# Altium footprint library Package_CSP.PcbLib: 127 footprints (part 2 of 8)
Each footprint in its own frame and in the unit in brackets; x right, y up, seen from the top. Pads: shape width x height; smd on the part's side, far side on the other; paste and mask are expansions set on the pad; w line width, h text height; cw(c..) or ccw(c..) is an arc to the next point about the centre after c.
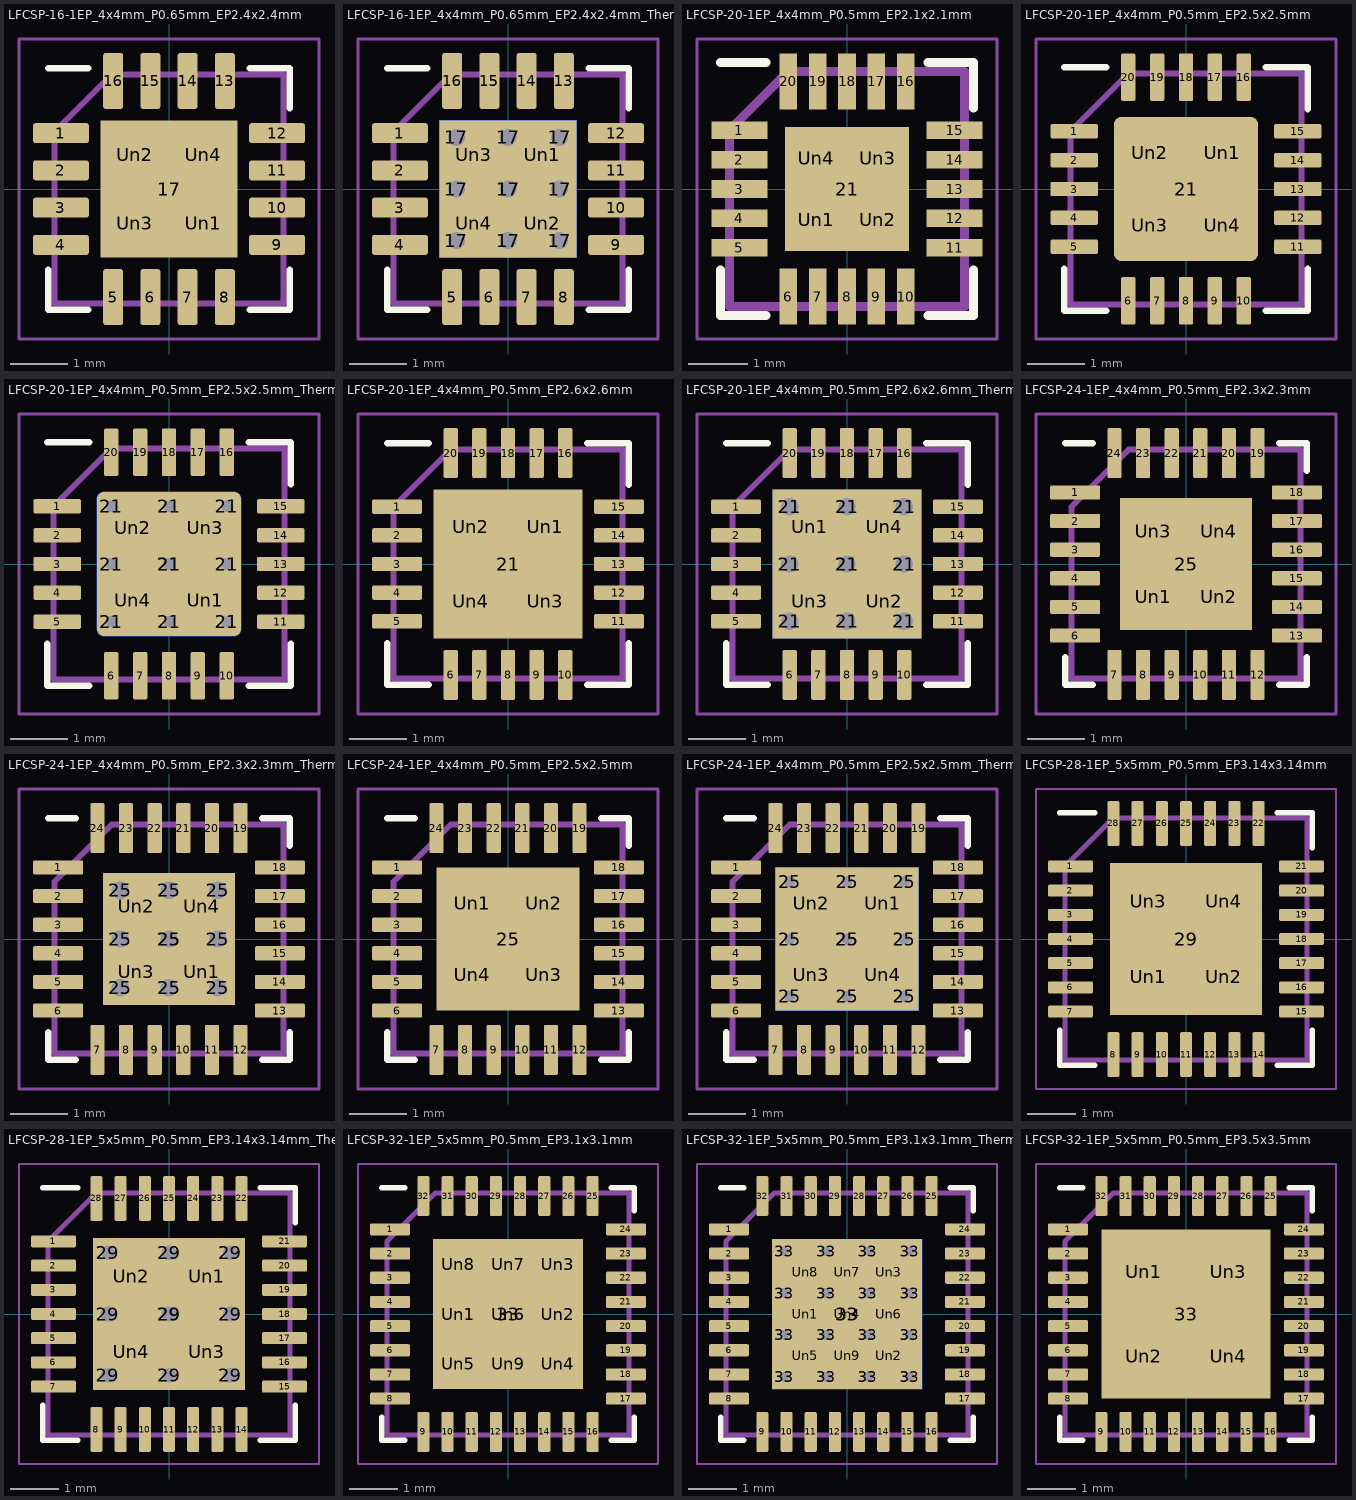
[diagram p1: the footprints below, top view; thin cyan lines are the x and y axes]

## LFCSP-16-1EP_4x4mm_P0.65mm_EP2.4x2.4mm [mm]
pads (21):
  rrect25% 0.975x0.35 smd: 1(-1.887,0.975) 2(-1.887,0.325) 3(-1.887,-0.325) 4(-1.887,-0.975) 9(1.887,-0.975) 10(1.887,-0.325) 11(1.887,0.325) 12(1.887,0.975)
  rrect25% 0.35x0.975 smd: 5(-0.975,-1.887) 6(-0.325,-1.887) 7(0.325,-1.887) 8(0.975,-1.887) 13(0.975,1.887) 14(0.325,1.887) 15(-0.325,1.887) 16(-0.975,1.887)
  rect 2.4x2.4 smd: 17(0,0)
  rrect25% 0.97x0.97 on Top Paste: Un1(0.6,-0.6) Un2(-0.6,0.6) Un3(-0.6,-0.6) Un4(0.6,0.6)
F.SilkS:
  lines w0.12: -2.11,-1.41 -2.11,-2.11 -1.41,-2.11 ; -2.11,2.11 -1.41,2.11 ; 1.41,-2.11 2.11,-2.11 2.11,-1.41 ; 1.41,2.11 2.11,2.11 2.11,1.41
F.CrtYd:
  lines w0.05: -2.62,-2.62 -2.62,2.62 2.62,2.62 2.62,-2.62 -2.62,-2.62
F.Fab:
  lines w0.1: -2,-2 -2,1 -1,2 2,2 2,-2 -2,-2
  text "'.Designator'" at -4.047,-0.84 h1

## LFCSP-16-1EP_4x4mm_P0.65mm_EP2.4x2.4mm_ThermalVias [mm]
pads (31):
  rrect25% 0.975x0.35 smd: 1(-1.887,0.975) 2(-1.887,0.325) 3(-1.887,-0.325) 4(-1.887,-0.975) 9(1.887,-0.975) 10(1.887,-0.325) 11(1.887,0.325) 12(1.887,0.975)
  rrect25% 0.35x0.975 smd: 5(-0.975,-1.887) 6(-0.325,-1.887) 7(0.325,-1.887) 8(0.975,-1.887) 13(0.975,1.887) 14(0.325,1.887) 15(-0.325,1.887) 16(-0.975,1.887)
  round 0.6 hole 0.3: 17(-0.9,-0.9) 17(-0.9,0) 17(-0.9,0.9) 17(0,-0.9) 17(0,0) 17(0,0.9) 17(0.9,-0.9) 17(0.9,0) 17(0.9,0.9)
  rect 2.4x2.4 smd: 17(0,0)
  rect 2.4x2.4 smd far side: 17(0,0)
  rrect24% 1.04x1.04 on Top Paste: Un1(0.6,0.6) Un2(0.6,-0.6) Un3(-0.6,0.6) Un4(-0.6,-0.6)
F.SilkS:
  lines w0.12: -2.11,-1.41 -2.11,-2.11 -1.41,-2.11 ; -2.11,2.11 -1.41,2.11 ; 1.41,-2.11 2.11,-2.11 2.11,-1.41 ; 1.41,2.11 2.11,2.11 2.11,1.41
F.CrtYd:
  lines w0.05: -2.62,-2.62 2.62,-2.62 2.62,2.62 -2.62,2.62 -2.62,-2.62
F.Fab:
  lines w0.1: -2,-2 -2,1 -1,2 2,2 2,-2 -2,-2
  text "'.Designator'" at -4.047,-0.84 h1

## LFCSP-20-1EP_4x4mm_P0.5mm_EP2.1x2.1mm [mm]
pads (25):
  rect 0.95x0.3 smd: 1(-1.83,1) 2(-1.83,0.5) 3(-1.83,0) 4(-1.83,-0.5) 5(-1.83,-1) 11(1.83,-1) 12(1.83,-0.5) 13(1.83,0) 14(1.83,0.5) 15(1.83,1)
  rect 0.3x0.95 smd: 6(-1,-1.83) 7(-0.5,-1.83) 8(0,-1.83) 9(0.5,-1.83) 10(1,-1.83) 16(1,1.83) 17(0.5,1.83) 18(0,1.83) 19(-0.5,1.83) 20(-1,1.83)
  rect 2.1x2.1 smd: 21(0,0)
  rect 0.86x0.86 on Top Paste: Un1(-0.525,-0.525) Un2(0.525,-0.525) Un3(0.525,0.525) Un4(-0.525,0.525)
F.SilkS:
  lines w0.15: -2.15,-1.375 -2.15,-2.15 -1.375,-2.15 ; -2.15,2.15 -1.375,2.15 ; 1.375,-2.15 2.15,-2.15 2.15,-1.375 ; 1.375,2.15 2.15,2.15 2.15,1.375
F.CrtYd:
  lines w0.05: -2.55,-2.55 -2.55,2.55 2.55,2.55 2.55,-2.55 -2.55,-2.55
F.Fab:
  lines w0.15: -2,-2 -2,1 -1,2 2,2 2,-2 -2,-2
  text "'.Designator'" at -4.047,-0.84 h1

## LFCSP-20-1EP_4x4mm_P0.5mm_EP2.5x2.5mm [mm]
pads (25):
  rrect25% 0.825x0.25 smd: 1(-1.937,1) 2(-1.937,0.5) 3(-1.937,0) 4(-1.937,-0.5) 5(-1.937,-1) 11(1.937,-1) 12(1.937,-0.5) 13(1.937,0) 14(1.937,0.5) 15(1.937,1)
  rrect25% 0.25x0.825 smd: 6(-1,-1.937) 7(-0.5,-1.937) 8(0,-1.937) 9(0.5,-1.937) 10(1,-1.937) 16(1,1.937) 17(0.5,1.937) 18(0,1.937) 19(-0.5,1.937) 20(-1,1.937)
  rrect10% 2.5x2.5 smd: 21(0,0)
  rrect25% 1.01x1.01 on Top Paste: Un1(0.625,0.625) Un2(-0.625,0.625) Un3(-0.625,-0.625) Un4(0.625,-0.625)
F.SilkS:
  lines w0.12: -2.11,-1.385 -2.11,-2.11 -1.385,-2.11 ; -2.11,2.11 -1.385,2.11 ; 1.385,-2.11 2.11,-2.11 2.11,-1.385 ; 1.385,2.11 2.11,2.11 2.11,1.385
F.CrtYd:
  lines w0.05: -2.6,-2.6 -2.6,2.6 2.6,2.6 2.6,-2.6 -2.6,-2.6
F.Fab:
  lines w0.1: -2,-2 -2,1 -1,2 2,2 2,-2 -2,-2
  text "'.Designator'" at -4.047,-0.84 h1

## LFCSP-20-1EP_4x4mm_P0.5mm_EP2.5x2.5mm_ThermalVias [mm]
pads (35):
  rrect25% 0.825x0.25 smd: 1(-1.937,1) 2(-1.937,0.5) 3(-1.937,0) 4(-1.937,-0.5) 5(-1.937,-1) 11(1.937,-1) 12(1.937,-0.5) 13(1.937,0) 14(1.937,0.5) 15(1.937,1)
  rrect25% 0.25x0.825 smd: 6(-1,-1.937) 7(-0.5,-1.937) 8(0,-1.937) 9(0.5,-1.937) 10(1,-1.937) 16(1,1.937) 17(0.5,1.937) 18(0,1.937) 19(-0.5,1.937) 20(-1,1.937)
  round 0.5 hole 0.2: 21(-1,-1) 21(-1,0) 21(-1,1) 21(0,-1) 21(0,0) 21(0,1) 21(1,-1) 21(1,0) 21(1,1)
  rrect10% 2.5x2.5 smd: 21(0,0)
  rrect10% 2.5x2.5 smd far side: 21(0,0)
  rrect23% 1.08x1.08 on Top Paste: Un1(0.625,-0.625) Un2(-0.625,0.625) Un3(0.625,0.625) Un4(-0.625,-0.625)
F.SilkS:
  lines w0.12: -2.11,-1.385 -2.11,-2.11 -1.385,-2.11 ; -2.11,2.11 -1.385,2.11 ; 1.385,-2.11 2.11,-2.11 2.11,-1.385 ; 1.385,2.11 2.11,2.11 2.11,1.385
F.CrtYd:
  lines w0.05: -2.6,-2.6 2.6,-2.6 2.6,2.6 -2.6,2.6 -2.6,-2.6
F.Fab:
  lines w0.1: -2,-2 -2,1 -1,2 2,2 2,-2 -2,-2
  text "'.Designator'" at -4.047,-0.84 h1

## LFCSP-20-1EP_4x4mm_P0.5mm_EP2.6x2.6mm [mm]
pads (25):
  rrect25% 0.875x0.25 smd: 1(-1.937,1) 2(-1.937,0.5) 3(-1.937,0) 4(-1.937,-0.5) 5(-1.937,-1) 11(1.937,-1) 12(1.937,-0.5) 13(1.937,0) 14(1.937,0.5) 15(1.937,1)
  rrect25% 0.25x0.875 smd: 6(-1,-1.937) 7(-0.5,-1.937) 8(0,-1.937) 9(0.5,-1.937) 10(1,-1.937) 16(1,1.937) 17(0.5,1.937) 18(0,1.937) 19(-0.5,1.937) 20(-1,1.937)
  rect 2.6x2.6 smd: 21(0,0)
  rrect24% 1.05x1.05 on Top Paste: Un1(0.65,0.65) Un2(-0.65,0.65) Un3(0.65,-0.65) Un4(-0.65,-0.65)
F.SilkS:
  lines w0.12: -2.11,-1.385 -2.11,-2.11 -1.385,-2.11 ; -2.11,2.11 -1.385,2.11 ; 1.385,-2.11 2.11,-2.11 2.11,-1.385 ; 1.385,2.11 2.11,2.11 2.11,1.385
F.CrtYd:
  lines w0.05: -2.62,-2.62 2.62,-2.62 2.62,2.62 -2.62,2.62 -2.62,-2.62
F.Fab:
  lines w0.1: -2,-2 -2,1 -1,2 2,2 2,-2 -2,-2
  text "'.Designator'" at -4.047,-0.84 h1

## LFCSP-20-1EP_4x4mm_P0.5mm_EP2.6x2.6mm_ThermalVias [mm]
pads (35):
  rrect25% 0.875x0.25 smd: 1(-1.937,1) 2(-1.937,0.5) 3(-1.937,0) 4(-1.937,-0.5) 5(-1.937,-1) 11(1.937,-1) 12(1.937,-0.5) 13(1.937,0) 14(1.937,0.5) 15(1.937,1)
  rrect25% 0.25x0.875 smd: 6(-1,-1.937) 7(-0.5,-1.937) 8(0,-1.937) 9(0.5,-1.937) 10(1,-1.937) 16(1,1.937) 17(0.5,1.937) 18(0,1.937) 19(-0.5,1.937) 20(-1,1.937)
  round 0.6 hole 0.3: 21(-1,-1) 21(-1,0) 21(-1,1) 21(0,-1) 21(0,0) 21(0,1) 21(1,-1) 21(1,0) 21(1,1)
  rect 2.6x2.6 smd far side: 21(0,0)
  rect 2.6x2.6 smd: 21(0,0)
  rrect23% 1.09x1.09 on Top Paste: Un1(-0.65,0.65) Un2(0.65,-0.65) Un3(-0.65,-0.65) Un4(0.65,0.65)
F.SilkS:
  lines w0.12: -2.11,-1.385 -2.11,-2.11 -1.385,-2.11 ; -2.11,2.11 -1.385,2.11 ; 1.385,-2.11 2.11,-2.11 2.11,-1.385 ; 1.385,2.11 2.11,2.11 2.11,1.385
F.CrtYd:
  lines w0.05: -2.62,-2.62 2.62,-2.62 2.62,2.62 -2.62,2.62 -2.62,-2.62
F.Fab:
  lines w0.1: -2,-2 2,-2 2,2 -1,2 -2,1 -2,-2
  text "'.Designator'" at -4.047,-0.84 h1

## LFCSP-24-1EP_4x4mm_P0.5mm_EP2.3x2.3mm [mm]
pads (29):
  rrect25% 0.875x0.25 smd: 1(-1.937,1.25) 2(-1.937,0.75) 3(-1.937,0.25) 4(-1.937,-0.25) 5(-1.937,-0.75) 6(-1.937,-1.25) 13(1.937,-1.25) 14(1.937,-0.75) 15(1.937,-0.25) 16(1.937,0.25) 17(1.937,0.75) 18(1.937,1.25)
  rrect25% 0.25x0.875 smd: 7(-1.25,-1.937) 8(-0.75,-1.937) 9(-0.25,-1.937) 10(0.25,-1.937) 11(0.75,-1.937) 12(1.25,-1.937) 19(1.25,1.937) 20(0.75,1.937) 21(0.25,1.937) 22(-0.25,1.937) 23(-0.75,1.937) 24(-1.25,1.937)
  rect 2.3x2.3 smd: 25(0,0)
  rrect25% 0.93x0.93 on Top Paste: Un1(-0.575,-0.575) Un2(0.575,-0.575) Un3(-0.575,0.575) Un4(0.575,0.575)
F.SilkS:
  lines w0.12: -2.11,-1.635 -2.11,-2.11 -1.635,-2.11 ; -2.11,2.11 -1.635,2.11 ; 1.635,-2.11 2.11,-2.11 2.11,-1.635 ; 1.635,2.11 2.11,2.11 2.11,1.635
F.CrtYd:
  lines w0.05: -2.62,-2.62 2.62,-2.62 2.62,2.62 -2.62,2.62 -2.62,-2.62
F.Fab:
  lines w0.1: -2,-2 -2,1 -1,2 2,2 2,-2 -2,-2
  text "'.Designator'" at -4.047,-0.84 h1

## LFCSP-24-1EP_4x4mm_P0.5mm_EP2.3x2.3mm_ThermalVias [mm]
pads (39):
  rrect25% 0.875x0.25 smd: 1(-1.937,1.25) 2(-1.937,0.75) 3(-1.937,0.25) 4(-1.937,-0.25) 5(-1.937,-0.75) 6(-1.937,-1.25) 13(1.937,-1.25) 14(1.937,-0.75) 15(1.937,-0.25) 16(1.937,0.25) 17(1.937,0.75) 18(1.937,1.25)
  rrect25% 0.25x0.875 smd: 7(-1.25,-1.937) 8(-0.75,-1.937) 9(-0.25,-1.937) 10(0.25,-1.937) 11(0.75,-1.937) 12(1.25,-1.937) 19(1.25,1.937) 20(0.75,1.937) 21(0.25,1.937) 22(-0.25,1.937) 23(-0.75,1.937) 24(-1.25,1.937)
  round 0.6 hole 0.3: 25(-0.85,-0.85) 25(-0.85,0) 25(-0.85,0.85) 25(0,-0.85) 25(0,0) 25(0,0.85) 25(0.85,-0.85) 25(0.85,0) 25(0.85,0.85)
  rect 2.3x2.3 smd far side: 25(0,0)
  rect 2.3x2.3 smd: 25(0,0)
  rrect25% 0.96x0.96 on Top Paste: Un1(0.575,-0.575) Un2(-0.575,0.575) Un3(-0.575,-0.575) Un4(0.575,0.575)
F.SilkS:
  lines w0.12: -2.11,-1.635 -2.11,-2.11 -1.635,-2.11 ; -2.11,2.11 -1.635,2.11 ; 1.635,-2.11 2.11,-2.11 2.11,-1.635 ; 1.635,2.11 2.11,2.11 2.11,1.635
F.CrtYd:
  lines w0.05: -2.62,-2.62 2.62,-2.62 2.62,2.62 -2.62,2.62 -2.62,-2.62
F.Fab:
  lines w0.1: -2,-2 -2,1 -1,2 2,2 2,-2 -2,-2
  text "'.Designator'" at -4.047,-0.84 h1

## LFCSP-24-1EP_4x4mm_P0.5mm_EP2.5x2.5mm [mm]
pads (29):
  rrect25% 0.875x0.25 smd: 1(-1.937,1.25) 2(-1.937,0.75) 3(-1.937,0.25) 4(-1.937,-0.25) 5(-1.937,-0.75) 6(-1.937,-1.25) 13(1.937,-1.25) 14(1.937,-0.75) 15(1.937,-0.25) 16(1.937,0.25) 17(1.937,0.75) 18(1.937,1.25)
  rrect25% 0.25x0.875 smd: 7(-1.25,-1.937) 8(-0.75,-1.937) 9(-0.25,-1.937) 10(0.25,-1.937) 11(0.75,-1.937) 12(1.25,-1.937) 19(1.25,1.937) 20(0.75,1.937) 21(0.25,1.937) 22(-0.25,1.937) 23(-0.75,1.937) 24(-1.25,1.937)
  rect 2.5x2.5 smd: 25(0,0)
  rrect25% 1.01x1.01 on Top Paste: Un1(-0.625,0.625) Un2(0.625,0.625) Un3(0.625,-0.625) Un4(-0.625,-0.625)
F.SilkS:
  lines w0.12: -2.11,-1.635 -2.11,-2.11 -1.635,-2.11 ; -2.11,2.11 -1.635,2.11 ; 1.635,-2.11 2.11,-2.11 2.11,-1.635 ; 1.635,2.11 2.11,2.11 2.11,1.635
F.CrtYd:
  lines w0.05: -2.62,-2.62 -2.62,2.62 2.62,2.62 2.62,-2.62 -2.62,-2.62
F.Fab:
  lines w0.1: -2,-2 2,-2 2,2 -1,2 -2,1 -2,-2
  text "'.Designator'" at -4.047,-0.84 h1

## LFCSP-24-1EP_4x4mm_P0.5mm_EP2.5x2.5mm_ThermalVias [mm]
pads (39):
  rrect25% 0.875x0.25 smd: 1(-1.937,1.25) 2(-1.937,0.75) 3(-1.937,0.25) 4(-1.937,-0.25) 5(-1.937,-0.75) 6(-1.937,-1.25) 13(1.937,-1.25) 14(1.937,-0.75) 15(1.937,-0.25) 16(1.937,0.25) 17(1.937,0.75) 18(1.937,1.25)
  rrect25% 0.25x0.875 smd: 7(-1.25,-1.937) 8(-0.75,-1.937) 9(-0.25,-1.937) 10(0.25,-1.937) 11(0.75,-1.937) 12(1.25,-1.937) 19(1.25,1.937) 20(0.75,1.937) 21(0.25,1.937) 22(-0.25,1.937) 23(-0.75,1.937) 24(-1.25,1.937)
  round 0.5 hole 0.2: 25(-1,-1) 25(-1,0) 25(-1,1) 25(0,-1) 25(0,0) 25(0,1) 25(1,-1) 25(1,0) 25(1,1)
  rect 2.5x2.5 smd far side: 25(0,0)
  rect 2.5x2.5 smd: 25(0,0)
  rrect23% 1.08x1.08 on Top Paste: Un1(0.625,0.625) Un2(-0.625,0.625) Un3(-0.625,-0.625) Un4(0.625,-0.625)
F.SilkS:
  lines w0.12: -2.11,-1.635 -2.11,-2.11 -1.635,-2.11 ; -2.11,2.11 -1.635,2.11 ; 1.635,-2.11 2.11,-2.11 2.11,-1.635 ; 1.635,2.11 2.11,2.11 2.11,1.635
F.CrtYd:
  lines w0.05: -2.62,-2.62 2.62,-2.62 2.62,2.62 -2.62,2.62 -2.62,-2.62
F.Fab:
  lines w0.1: -2,-2 2,-2 2,2 -1,2 -2,1 -2,-2
  text "'.Designator'" at -4.047,-0.84 h1

## LFCSP-28-1EP_5x5mm_P0.5mm_EP3.14x3.14mm [mm]
pads (33):
  rrect25% 0.925x0.25 smd: 1(-2.388,1.5) 2(-2.388,1) 3(-2.388,0.5) 4(-2.388,0) 5(-2.388,-0.5) 6(-2.388,-1) 7(-2.388,-1.5) 15(2.388,-1.5) 16(2.388,-1) 17(2.388,-0.5) 18(2.388,0) 19(2.388,0.5) 20(2.388,1) 21(2.388,1.5)
  rrect25% 0.25x0.925 smd: 8(-1.5,-2.388) 9(-1,-2.388) 10(-0.5,-2.388) 11(0,-2.388) 12(0.5,-2.388) 13(1,-2.388) 14(1.5,-2.388) 22(1.5,2.388) 23(1,2.388) 24(0.5,2.388) 25(0,2.388) 26(-0.5,2.388) 27(-1,2.388) 28(-1.5,2.388)
  rect 3.14x3.14 smd: 29(0,0)
  rrect20% 1.27x1.27 on Top Paste: Un1(-0.785,-0.785) Un2(0.785,-0.785) Un3(-0.785,0.785) Un4(0.785,0.785)
F.SilkS:
  lines w0.12: -2.61,-1.885 -2.61,-2.61 -1.885,-2.61 ; -2.61,2.61 -1.885,2.61 ; 1.885,-2.61 2.61,-2.61 2.61,-1.885 ; 1.885,2.61 2.61,2.61 2.61,1.885
F.CrtYd:
  lines w0.05: -3.1,-3.1 -3.1,3.1 3.1,3.1 3.1,-3.1 -3.1,-3.1
F.Fab:
  lines w0.1: -2.5,-2.5 -2.5,1.5 -1.5,2.5 2.5,2.5 2.5,-2.5 -2.5,-2.5
  text "'.Designator'" at -4.047,-0.84 h1

## LFCSP-28-1EP_5x5mm_P0.5mm_EP3.14x3.14mm_ThermalVias [mm]
pads (43):
  rrect25% 0.925x0.25 smd: 1(-2.388,1.5) 2(-2.388,1) 3(-2.388,0.5) 4(-2.388,0) 5(-2.388,-0.5) 6(-2.388,-1) 7(-2.388,-1.5) 15(2.388,-1.5) 16(2.388,-1) 17(2.388,-0.5) 18(2.388,0) 19(2.388,0.5) 20(2.388,1) 21(2.388,1.5)
  rrect25% 0.25x0.925 smd: 8(-1.5,-2.388) 9(-1,-2.388) 10(-0.5,-2.388) 11(0,-2.388) 12(0.5,-2.388) 13(1,-2.388) 14(1.5,-2.388) 22(1.5,2.388) 23(1,2.388) 24(0.5,2.388) 25(0,2.388) 26(-0.5,2.388) 27(-1,2.388) 28(-1.5,2.388)
  round 0.6 hole 0.3: 29(-1.27,-1.27) 29(-1.27,0) 29(-1.27,1.27) 29(0,-1.27) 29(0,0) 29(0,1.27) 29(1.27,-1.27) 29(1.27,0) 29(1.27,1.27)
  rect 3.14x3.14 smd far side: 29(0,0)
  rect 3.14x3.14 smd: 29(0,0)
  rrect19% 1.31x1.31 on Top Paste: Un1(0.785,0.785) Un2(-0.785,0.785) Un3(0.785,-0.785) Un4(-0.785,-0.785)
F.SilkS:
  lines w0.12: -2.61,-1.885 -2.61,-2.61 -1.885,-2.61 ; -2.61,2.61 -1.885,2.61 ; 1.885,-2.61 2.61,-2.61 2.61,-1.885 ; 1.885,2.61 2.61,2.61 2.61,1.885
F.CrtYd:
  lines w0.05: -3.1,-3.1 -3.1,3.1 3.1,3.1 3.1,-3.1 -3.1,-3.1
F.Fab:
  lines w0.1: -2.5,-2.5 2.5,-2.5 2.5,2.5 -1.5,2.5 -2.5,1.5 -2.5,-2.5
  text "'.Designator'" at -4.047,-0.84 h1

## LFCSP-32-1EP_5x5mm_P0.5mm_EP3.1x3.1mm [mm]
pads (42):
  rrect25% 0.825x0.25 smd: 1(-2.438,1.75) 2(-2.438,1.25) 3(-2.438,0.75) 4(-2.438,0.25) 5(-2.438,-0.25) 6(-2.438,-0.75) 7(-2.438,-1.25) 8(-2.438,-1.75) 17(2.438,-1.75) 18(2.438,-1.25) 19(2.438,-0.75) 20(2.438,-0.25) 21(2.438,0.25) 22(2.438,0.75) 23(2.438,1.25) 24(2.438,1.75)
  rrect25% 0.25x0.825 smd: 9(-1.75,-2.438) 10(-1.25,-2.438) 11(-0.75,-2.438) 12(-0.25,-2.438) 13(0.25,-2.438) 14(0.75,-2.438) 15(1.25,-2.438) 16(1.75,-2.438) 25(1.75,2.438) 26(1.25,2.438) 27(0.75,2.438) 28(0.25,2.438) 29(-0.25,2.438) 30(-0.75,2.438) 31(-1.25,2.438) 32(-1.75,2.438)
  rect 3.1x3.1 smd: 33(0,0)
  rrect25% 0.83x0.83 on Top Paste: Un1(-1.03,0) Un2(1.03,0) Un3(1.03,1.03) Un4(1.03,-1.03) Un5(-1.03,-1.03) Un6(0,0) Un7(0,1.03) Un8(-1.03,1.03) Un9(0,-1.03)
F.SilkS:
  lines w0.12: -2.61,-2.135 -2.61,-2.61 -2.135,-2.61 ; -2.61,2.61 -2.135,2.61 ; 2.135,-2.61 2.61,-2.61 2.61,-2.135 ; 2.135,2.61 2.61,2.61 2.61,2.135
F.CrtYd:
  lines w0.05: -3.1,-3.1 -3.1,3.1 3.1,3.1 3.1,-3.1 -3.1,-3.1
F.Fab:
  lines w0.1: -2.5,-2.5 -2.5,1.5 -1.5,2.5 2.5,2.5 2.5,-2.5 -2.5,-2.5
  text "'.Designator'" at -4.047,-0.84 h1

## LFCSP-32-1EP_5x5mm_P0.5mm_EP3.1x3.1mm_ThermalVias [mm]
pads (59):
  rrect25% 0.825x0.25 smd: 1(-2.438,1.75) 2(-2.438,1.25) 3(-2.438,0.75) 4(-2.438,0.25) 5(-2.438,-0.25) 6(-2.438,-0.75) 7(-2.438,-1.25) 8(-2.438,-1.75) 17(2.438,-1.75) 18(2.438,-1.25) 19(2.438,-0.75) 20(2.438,-0.25) 21(2.438,0.25) 22(2.438,0.75) 23(2.438,1.25) 24(2.438,1.75)
  rrect25% 0.25x0.825 smd: 9(-1.75,-2.438) 10(-1.25,-2.438) 11(-0.75,-2.438) 12(-0.25,-2.438) 13(0.25,-2.438) 14(0.75,-2.438) 15(1.25,-2.438) 16(1.75,-2.438) 25(1.75,2.438) 26(1.25,2.438) 27(0.75,2.438) 28(0.25,2.438) 29(-0.25,2.438) 30(-0.75,2.438) 31(-1.25,2.438) 32(-1.75,2.438)
  round 0.5 hole 0.2: 33(-1.3,-1.3) 33(-1.3,-0.433) 33(-1.3,0.433) 33(-1.3,1.3) 33(-0.433,-1.3) 33(-0.433,-0.433) 33(-0.433,0.433) 33(-0.433,1.3) 33(0.433,-1.3) 33(0.433,-0.433) 33(0.433,0.433) 33(0.433,1.3) 33(1.3,-1.3) 33(1.3,-0.433) 33(1.3,0.433) 33(1.3,1.3)
  rect 3.1x3.1 smd: 33(0,0)
  rect 3.1x3.1 smd far side: 33(0,0)
  round 0.657 on Top Paste: Un1(-0.867,0) Un2(0.867,-0.867) Un3(0.867,0.867) Un4(0,0) Un5(-0.867,-0.867) Un6(0.867,0) Un7(0,0.867) Un8(-0.867,0.867) Un9(0,-0.867)
F.SilkS:
  lines w0.12: -2.61,-2.135 -2.61,-2.61 -2.135,-2.61 ; -2.61,2.61 -2.135,2.61 ; 2.135,-2.61 2.61,-2.61 2.61,-2.135 ; 2.135,2.61 2.61,2.61 2.61,2.135
F.Paste:
  region: -0.626,0.094 -0.626,-0.094 -0.772,-0.24 -0.961,-0.24 -1.107,-0.094 -1.107,0.094 -0.961,0.24 -0.772,0.24
  region: 1.107,-0.772 1.107,-0.961 0.961,-1.107 0.772,-1.107 0.626,-0.961 0.626,-0.772 0.772,-0.626 0.961,-0.626
  region: 1.107,0.961 1.107,0.772 0.961,0.626 0.772,0.626 0.626,0.772 0.626,0.961 0.772,1.107 0.961,1.107
  region: 0.24,0.094 0.24,-0.094 0.094,-0.24 -0.094,-0.24 -0.24,-0.094 -0.24,0.094 -0.094,0.24 0.094,0.24
  region: -0.626,-0.772 -0.626,-0.961 -0.772,-1.107 -0.961,-1.107 -1.107,-0.961 -1.107,-0.772 -0.961,-0.626 -0.772,-0.626
  region: 1.107,0.094 1.107,-0.094 0.961,-0.24 0.772,-0.24 0.626,-0.094 0.626,0.094 0.772,0.24 0.961,0.24
  region: 0.24,0.961 0.24,0.772 0.094,0.626 -0.094,0.626 -0.24,0.772 -0.24,0.961 -0.094,1.107 0.094,1.107
  region: -0.626,0.961 -0.626,0.772 -0.772,0.626 -0.961,0.626 -1.107,0.772 -1.107,0.961 -0.961,1.107 -0.772,1.107
  region: 0.24,-0.772 0.24,-0.961 0.094,-1.107 -0.094,-1.107 -0.24,-0.961 -0.24,-0.772 -0.094,-0.626 0.094,-0.626
F.CrtYd:
  lines w0.05: -3.1,-3.1 3.1,-3.1 3.1,3.1 -3.1,3.1 -3.1,-3.1
F.Fab:
  lines w0.1: -2.5,-2.5 -2.5,1.5 -1.5,2.5 2.5,2.5 2.5,-2.5 -2.5,-2.5
  text "'.Designator'" at -4.047,-0.84 h1

## LFCSP-32-1EP_5x5mm_P0.5mm_EP3.5x3.5mm [mm]
pads (37):
  rrect25% 0.825x0.25 smd: 1(-2.438,1.75) 2(-2.438,1.25) 3(-2.438,0.75) 4(-2.438,0.25) 5(-2.438,-0.25) 6(-2.438,-0.75) 7(-2.438,-1.25) 8(-2.438,-1.75) 17(2.438,-1.75) 18(2.438,-1.25) 19(2.438,-0.75) 20(2.438,-0.25) 21(2.438,0.25) 22(2.438,0.75) 23(2.438,1.25) 24(2.438,1.75)
  rrect25% 0.25x0.825 smd: 9(-1.75,-2.438) 10(-1.25,-2.438) 11(-0.75,-2.438) 12(-0.25,-2.438) 13(0.25,-2.438) 14(0.75,-2.438) 15(1.25,-2.438) 16(1.75,-2.438) 25(1.75,2.438) 26(1.25,2.438) 27(0.75,2.438) 28(0.25,2.438) 29(-0.25,2.438) 30(-0.75,2.438) 31(-1.25,2.438) 32(-1.75,2.438)
  rect 3.5x3.5 smd: 33(0,0)
  rrect18% 1.41x1.41 on Top Paste: Un1(-0.875,0.875) Un2(-0.875,-0.875) Un3(0.875,0.875) Un4(0.875,-0.875)
F.SilkS:
  lines w0.12: -2.61,-2.135 -2.61,-2.61 -2.135,-2.61 ; -2.61,2.61 -2.135,2.61 ; 2.135,-2.61 2.61,-2.61 2.61,-2.135 ; 2.135,2.61 2.61,2.61 2.61,2.135
F.CrtYd:
  lines w0.05: -3.1,-3.1 -3.1,3.1 3.1,3.1 3.1,-3.1 -3.1,-3.1
F.Fab:
  lines w0.1: -2.5,-2.5 2.5,-2.5 2.5,2.5 -1.5,2.5 -2.5,1.5 -2.5,-2.5
  text "'.Designator'" at -4.047,-0.84 h1